# Altium footprint library 500SSP1S1M2QEA.PcbLib: 1 footprints
Each footprint in its own frame and in the unit in brackets; x right, y up, seen from the top. Pads: shape width x height; smd on the part's side, far side on the other; paste and mask are expansions set on the pad; w line width, h text height; cw(c..) or ccw(c..) is an arc to the next point about the centre after c.
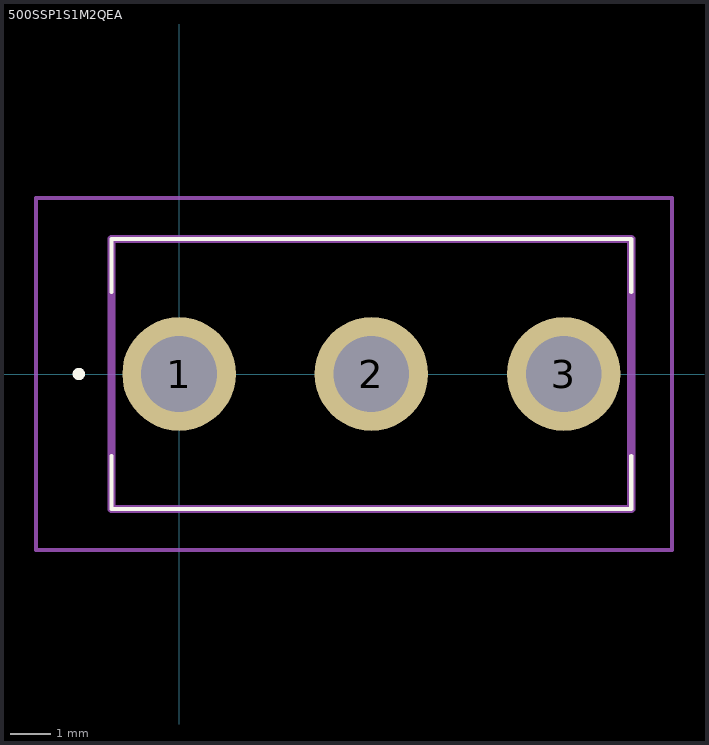
[diagram p0: the footprint, top view; thin cyan lines are the x and y axes]

## 500SSP1S1M2QEA [mm]
pads (3):
  round 2.775 hole 1.85: 1(0,0) 2(4.7,0) 3(9.4,0)
Top Overlay:
  lines w0.1: -1.65,-3.3 11.05,-3.3 ; -1.65,-3.3 -1.65,-3.3 ; -1.65,-3.3 11.05,-3.3 ; -1.65,-3.3 -1.65,-3.3 ; -1.65,-3.3 -1.65,-2 ; -1.65,-3.3 -1.65,-2 ; -1.65,-2 -1.65,-2 ; -1.65,2 -1.65,2 ; -1.65,2 -1.65,3.3 ; -1.65,2 -1.65,3.3 ; -1.65,3.3 -1.65,3.3 ; -1.65,3.3 11.05,3.3 ; -1.65,3.3 11.05,3.3 ; -1.65,3.3 -1.65,3.3 ; 11.05,-3.3 11.05,-2 ; 11.05,-3.3 11.05,-3.3 ; 11.05,-3.3 11.05,-2 ; 11.05,-3.3 11.05,-3.3 ; 11.05,-2 11.05,-2 ; 11.05,2 11.05,3.3 ; 11.05,2 11.05,2 ; 11.05,2 11.05,3.3 ; 11.05,3.3 11.05,3.3 ; 11.05,3.3 11.05,3.3
  lines w0.2: -2.5,0 -2.5,0 ; -2.5,0 ccw(c-2.45,0) -2.4,0 ; -2.5,0 cw(c-2.45,0) -2.4,0 ; -2.5,0 -2.5,0 ; -2.5,0 ccw(c-2.45,0) -2.4,0 ; -2.4,0 -2.4,0
Mechanical 15:
  lines w0.2: -1.65,-3.3 11.05,-3.3 11.05,3.3 -1.65,3.3 -1.65,-3.3
Mechanical 20:
  lines w0.1: -3.5,-4.3 12.05,-4.3 12.05,4.3 -3.5,4.3 -3.5,-4.3